# Altium footprint library 贴片.PcbLib: 161 footprints (part 1 of 11)
Each footprint in its own frame and in the unit in brackets; x right, y up, seen from the top. Pads: shape width x height; smd on the part's side, far side on the other; paste and mask are expansions set on the pad; w line width, h text height; cw(c..) or ccw(c..) is an arc to the next point about the centre after c.
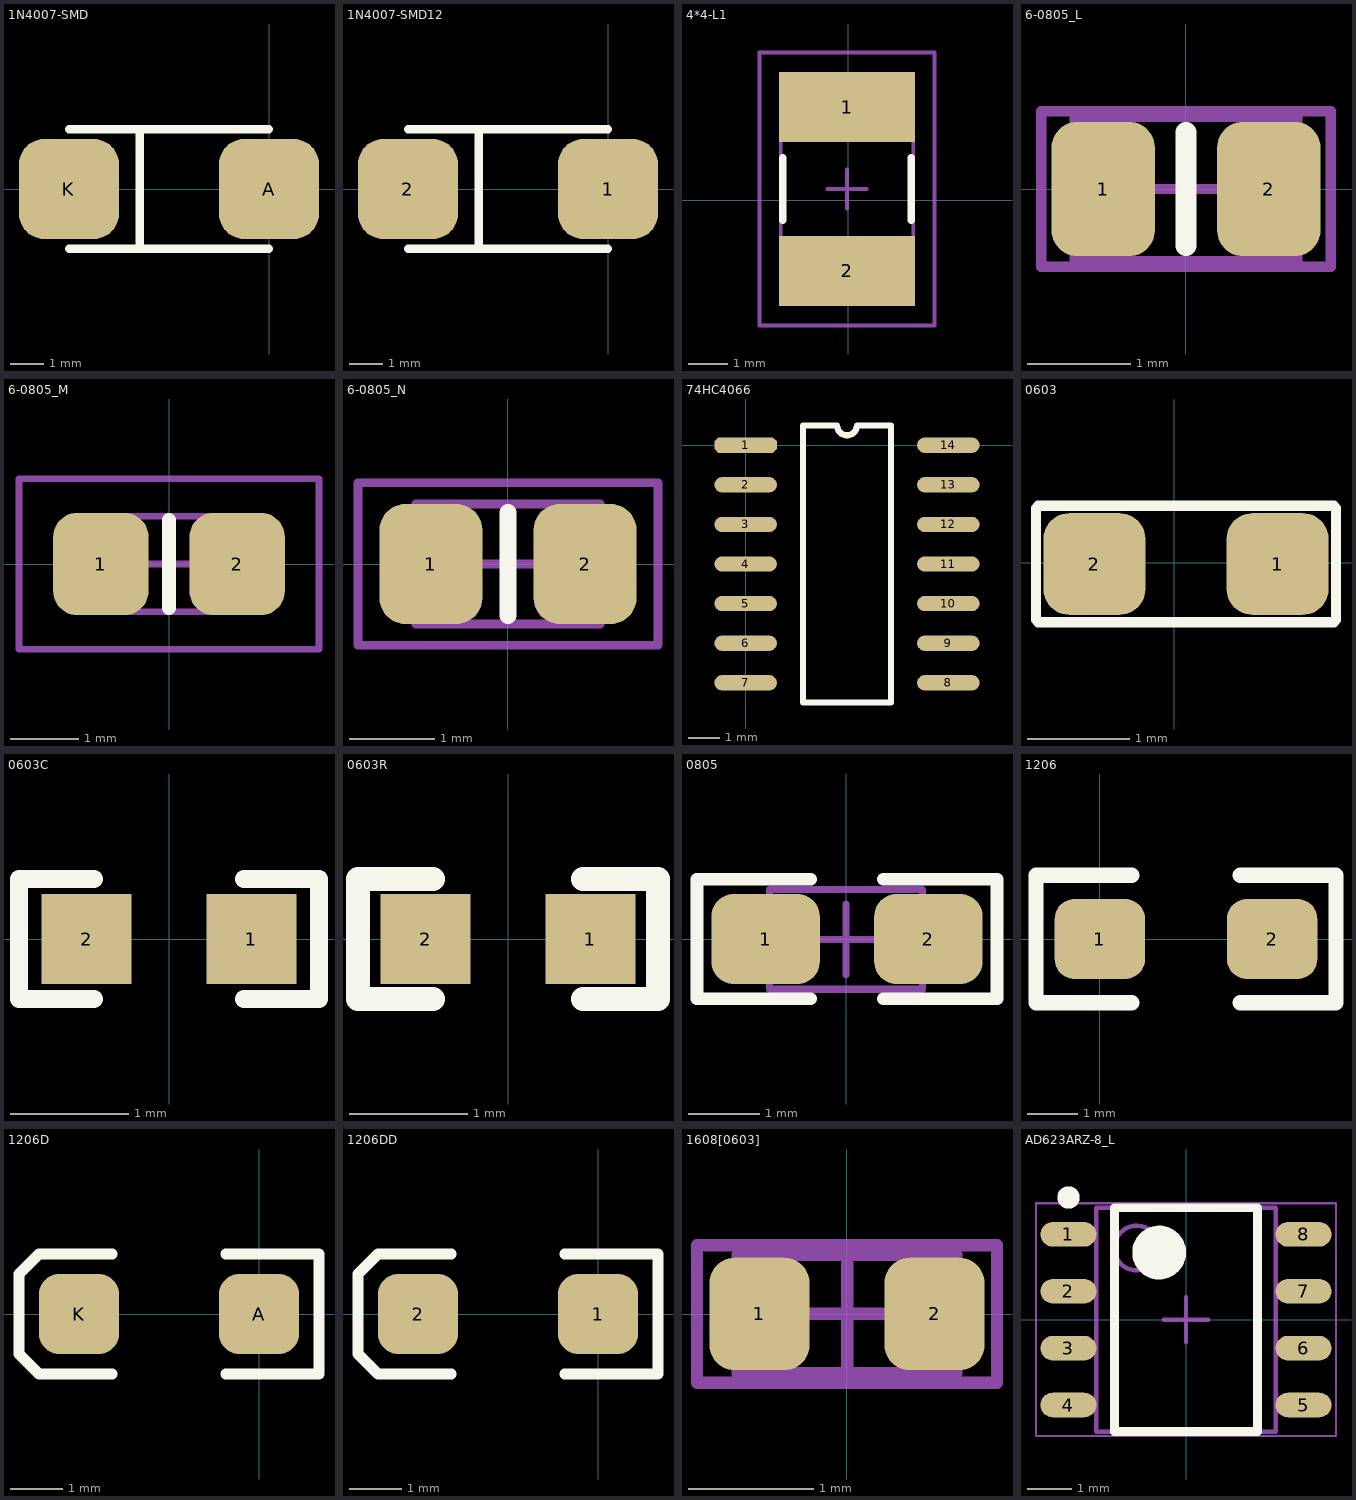
[diagram p0: the footprints below, top view; thin cyan lines are the x and y axes]

## 1N4007-SMD [mm]
pads (2):
  rrect50% 3x3 smd: A(0,0) K(-6,0)
Top Overlay:
  lines w0.254: -6,-1.79 0,-1.79 ; -6,1.79 0,1.79 ; -3.88,-1.79 -3.88,1.768

## 1N4007-SMD12 [mm]
pads (2):
  rrect50% 3x3 smd: 1(0,0) 2(-6,0)
Top Overlay:
  lines w0.254: -6,-1.79 0,-1.79 ; -6,1.79 0,1.79 ; -3.88,-1.79 -3.88,1.768

## 4*4-L1 [mm]
height 1.45
pads (2):
  rect 3.5x1.8 smd: 1(-0.032,2.391) 2(-0.032,-1.809)
Top Overlay:
  lines w0.2: -1.682,-0.509 -1.682,1.091 ; 1.618,-0.509 1.618,1.091
Mechanical 13:
  lines w0.1: -1.732,-2.109 -1.732,2.691 1.668,2.691 1.668,-2.109 -1.732,-2.109
Mechanical 15:
  lines w0.1: -0.532,0.291 0.468,0.291 ; -0.032,-0.209 -0.032,0.791 ; -2.282,-3.209 -2.282,3.791 2.218,3.791 2.218,-3.209 -2.282,-3.209
3D body: height 1.35, standoff 0, extent -1.732,-2.109 1.668,2.691

## 6-0805_L [mm] "Chip Resistor, Body 2.0x1.2mm, IPC High Density"
height 0.7
pads (2):
  rrect50% 1x1.3 smd: 1(-0.8,0) 2(0.8,0)
Top Overlay:
  lines w0.2: 0,-0.55 0,0.55
Mechanical 13:
  lines w0.1: -1.075,-0.7 1.075,-0.7 1.075,0.7 -1.075,0.7 -1.075,-0.7
Mechanical 15:
  lines w0.1: -0.5,0 0.5,0 ; 0,-0.5 0,0.5 ; -1.4,-0.75 1.4,-0.75 1.4,0.75 -1.4,0.75 -1.4,-0.75
3D body: height 0.7, standoff 0, extent -1.075,-0.7 1.075,0.7

## 6-0805_M [mm] "Chip Resistor, Body 2.0x1.2mm, IPC Low Density"
height 0.7
pads (2):
  rrect50% 1.4x1.5 smd: 1(-1,0) 2(1,0)
Top Overlay:
  lines w0.2: 0,-0.65 0,0.65
Mechanical 13:
  lines w0.1: -1.075,-0.7 1.075,-0.7 1.075,0.7 -1.075,0.7 -1.075,-0.7
Mechanical 15:
  lines w0.1: -0.5,0 0.5,0 ; 0,-0.5 0,0.5 ; -2.2,-1.25 2.2,-1.25 2.2,1.25 -2.2,1.25 -2.2,-1.25
3D body: height 0.7, standoff 0, extent -1.075,-0.7 1.075,0.7

## 6-0805_N [mm] "Chip Resistor, Body 2.0x1.2mm, IPC Medium Density"
height 0.7
pads (2):
  rrect50% 1.2x1.4 smd: 1(-0.9,0) 2(0.9,0)
Top Overlay:
  lines w0.2: 0,-0.6 0,0.6
Mechanical 13:
  lines w0.1: -1.075,-0.7 1.075,-0.7 1.075,0.7 -1.075,0.7 -1.075,-0.7
Mechanical 15:
  lines w0.1: -0.5,0 0.5,0 ; 0,-0.5 0,0.5 ; -1.75,-0.95 1.75,-0.95 1.75,0.95 -1.75,0.95 -1.75,-0.95
3D body: height 0.7, standoff 0, extent -1.075,-0.7 1.075,0.7

## 74HC4066 [mm]
pads (14):
  oct 2x0.49 smd: 1(0,0)
  oval 2x0.49 smd: 2(0,-1.27) 3(0,-2.54) 4(0,-3.81) 5(0,-5.08) 6(0,-6.35) 7(0,-7.62) 8(6.5,-7.62) 9(6.5,-6.35) 10(6.5,-5.08) 11(6.5,-3.81) 12(6.5,-2.54) 13(6.5,-1.27) 14(6.5,0)
Top Overlay:
  lines w0.2: 1.835,-8.255 4.665,-8.255 4.665,0.635 3.567,0.635 cw(c3.25,0.635) 2.932,0.635 1.835,0.635 1.835,-8.255

## 0603 [mm]
pads (2):
  rrect50% 1x1 smd: 1(1.015,-0.012) 2(-0.785,-0.012)
Top Overlay:
  lines w0.102: -1.358,-0.562 -1.358,0.538 ; -1.335,-0.585 1.565,-0.585 ; -1.335,0.561 1.565,0.561 ; 1.588,-0.562 1.588,0.538

## 0603C [mil]
height 275.98
pads (2):
  rect 30x30 smd: 1(27.5,0) 2(-27.5,0)
Top Overlay:
  lines w6: -25,-20 -50,-20 -50,20 -25,20 ; 25,-20 50,-20 50,20 25,20

## 0603R [mil]
height 78.74
pads (2):
  rect 30x30 smd: 1(27.5,0) 2(-27.5,0)
Top Overlay:
  lines w8: -25,-20 -50,-20 -50,20 -25,20 ; 25,-20 50,-20 50,20 25,20

## 0805 [mil]
pads (2):
  rrect50% 60x50 smd: 1(-44.49,0.24) 2(45.51,0.24)
Top Overlay:
  lines w7: -19.49,-32.76 -82.49,-32.76 -82.49,33.24 -19.49,33.24 ; 20.51,-32.76 83.51,-32.76 83.51,33.24 20.51,33.24
Mechanical 13:
  lines w3.94: -42.32,-27.56 -42.32,27.56 42.32,27.56 42.32,-27.56 -42.32,-27.56
Mechanical 15:
  lines w3.94: -19.68,0 19.69,0 ; 0,-19.68 0,19.69
3D body: height 27.56, standoff 0, extent -42.32,-27.56 42.32,27.56

## 1206 [mm]
pads (2):
  rrect50% 1.8x1.6 smd: 1(0,0) 2(3.429,0)
Top Overlay:
  lines w0.305: 0.635,-1.27 -1.27,-1.27 -1.27,1.27 0.635,1.27 ; 2.794,-1.27 4.699,-1.27 4.699,1.27 2.794,1.27

## 1206D [mil]
pads (2):
  rrect50% 60x60 smd: A(0,0) K(-135,0)
Top Overlay:
  lines w8: -110,-45 -165,-45 -180,-30 -180,30 -165,45 -110,45 ; -25,-45 45,-45 45,45 -25,45

## 1206DD [mil]
pads (2):
  rrect50% 60x60 smd: 1(0,0) 2(-135,0)
Top Overlay:
  lines w8: -110,-45 -165,-45 -180,-30 -180,30 -165,45 -110,45 ; -25,-45 45,-45 45,45 -25,45

## 1608[0603] [mm] "Chip Capacitor, Body 1.6x0.8mm, IPC High Density"
height 1.3
pads (2):
  rrect50% 0.8x0.9 smd: 1(-0.7,0) 2(0.7,0)
Mechanical 13:
  lines w0.1: -0.875,-0.475 0.875,-0.475 0.875,0.475 -0.875,0.475 -0.875,-0.475
Mechanical 15:
  lines w0.1: -0.475,0 0.475,0 ; 0,-0.475 0,0.475 ; -1.2,-0.55 1.2,-0.55 1.2,0.55 -1.2,0.55 -1.2,-0.55
3D body: height 1.3, standoff 0, extent -0.875,-0.475 0.875,0.475

## AD623ARZ-8_L [mm] "SOIC, 8-Leads, Body 5x4mm, Pitch 1.27mm, IPC High Density"
height 1.75
pads (8):
  oval 1.25x0.55 smd: 1(-2.625,1.905) 2(-2.625,0.635) 3(-2.625,-0.635) 4(-2.625,-1.905) 5(2.625,-1.905) 6(2.625,-0.635) 7(2.625,0.635) 8(2.625,1.905)
Top Overlay:
  circle w0.6: c-0.6,1.5 r0.3
  circle w0.25: c-2.625,2.73 r0.125
  lines w0.2: -1.6,-2.5 1.6,-2.5 1.6,2.5 -1.6,2.5 -1.6,-2.5
Mechanical 13:
  circle w0.1: c-1.1,1.6 r0.5
  lines w0.1: -2,-2.5 2,-2.5 2,2.5 -2,2.5 -2,-2.5
Mechanical 15:
  lines w0.05: -3.35,-2.6 3.35,-2.6 3.35,2.6 -3.35,2.6 -3.35,-2.6
  lines w0.1: -0.5,0 0.5,0 ; 0,-0.5 0,0.5
3D body: height 1.75, standoff 0.1, extent -2,-2.5 2,2.5